# Altium footprint library iot_hdmi_mux.PcbLib: 22 footprints (part 2 of 2)
Each footprint in its own frame and in the unit in brackets; x right, y up, seen from the top. Pads: shape width x height; smd on the part's side, far side on the other; paste and mask are expansions set on the pad; w line width, h text height; cw(c..) or ccw(c..) is an arc to the next point about the centre after c.
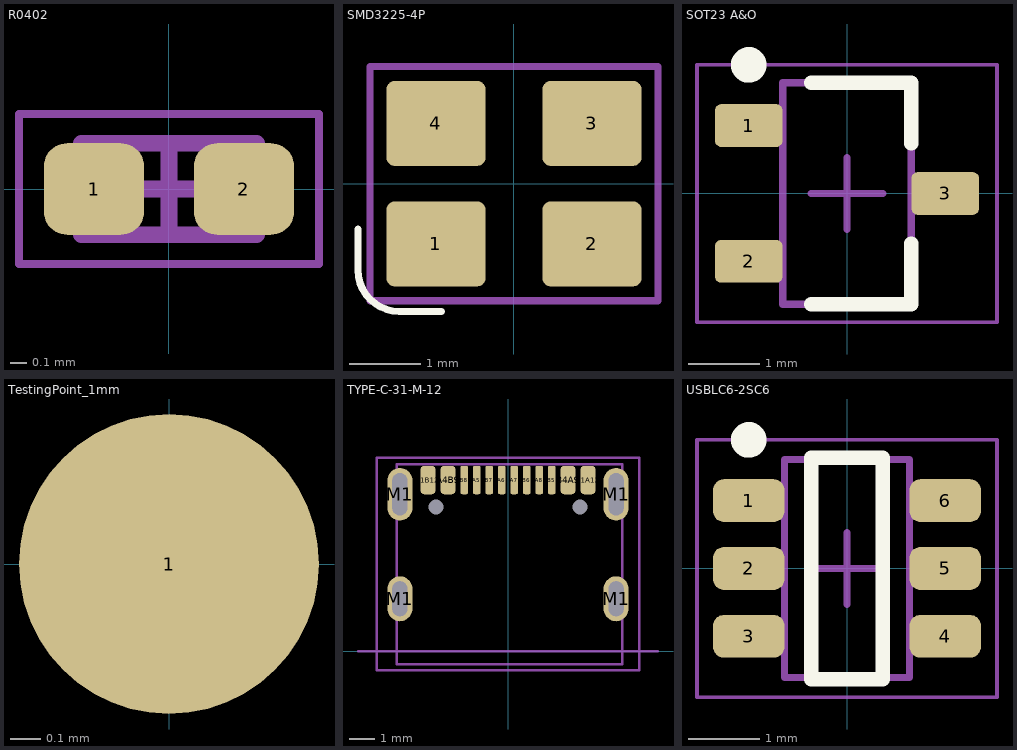
[diagram p1: the footprints below, top view; thin cyan lines are the x and y axes]

## R0402 [mm] "Chip Resistor, 2-Leads, Body 1.00x0.50mm, IPC Medium Density"
height 0.25
pads (2):
  rrect50% 0.6x0.55 smd mask+0.05: 1(-0.45,0) 2(0.45,0)
Mechanical 13:
  lines w0.1: -0.525,-0.275 0.525,-0.275 0.525,0.275 -0.525,0.275 -0.525,-0.275
Mechanical 15:
  lines w0.05: -0.9,-0.45 0.9,-0.45 0.9,0.45 -0.9,0.45 -0.9,-0.45
  lines w0.1: -0.275,0 0.275,0 ; 0,-0.275 0,0.275
3D body "RESC1005X02N.step": height 0.25, standoff 0, extent -0.525,-0.275 0.525,0.275

## SMD3225-4P [mm] "Crystal footprint"
pads (4):
  rrect20% 1.4x1.2 smd: 1(-1.1,-0.85) 2(1.1,-0.85) 3(1.1,0.85) 4(-1.1,0.85)
Top Overlay:
  lines w0.1: -2.2,-0.639 -2.2,-1.22 ccw(c-1.62,-1.22) -1.62,-1.8 -1.605,-1.8 ; -1.605,-1.8 -1.024,-1.8 -1.605,-1.8
Mechanical 15:
  lines w0.1: -2.032,-1.651 -2.032,1.651 2.032,1.651 2.032,-1.651 -2.032,-1.651
3D body "NX3225SA.step": height 0.55, standoff 0, extent -1.6,-1.25 1.6,1.25

## SOT23 A&O [mm] "SOT23, 3-Leads, Body 2.95x2.80mm, Pitch 0.95mm, IPC Medium Density"
height 1.25
pads (3):
  rrect30% 0.95x0.6 smd: 1(-1.375,0.95) 2(-1.375,-0.95) 3(1.375,0)
Top Overlay:
  circle w0.25: c-1.375,1.8 r0.125
  lines w0.2: -0.5,-1.55 0.9,-1.55 0.9,-0.7 ; -0.5,1.55 0.9,1.55 0.9,0.7
Mechanical 13:
  lines w0.1: -0.9,-1.55 -0.9,1.55 0.9,1.55 0.9,-1.55 -0.9,-1.55
Mechanical 15:
  lines w0.05: -2.1,-1.8 -2.1,1.8 2.1,1.8 2.1,-1.8 -2.1,-1.8
  lines w0.1: -0.5,0 0.5,0 ; 0,-0.5 0,0.5
3D body "SOT23 A&O.step": height 1.25, standoff 0, extent -1.5,-1.55 1.5,1.55

## TestingPoint_1mm [mm]
pads (1):
  round 1 smd paste-1: 1(0,0)

## TYPE-C-31-M-12 [mm] "5A 1 16P Female Type-C SMD  USB Connectors ROHS"
pads (18):
  rrect50% 0.6x1.14 smd: A1B12(-3.2,6.86) A4B9(-2.4,6.86) B1A12(3.2,6.86) B4A9(2.4,6.86)
  rrect50% 0.3x1.14 smd: A5(-1.25,6.86) A6(-0.25,6.86) A7(0.25,6.86) A8(1.25,6.86) B5(1.75,6.86) B6(0.75,6.86) B7(-0.75,6.86) B8(-1.75,6.86)
  rrect50% 0x0 hole 0.6: H(-2.89,5.79) H(2.89,5.79)
  oval 1x1.8 hole 0.6 slot 1.4 at 90 deg: M1(-4.325,2.11) M1(4.325,2.11)
  oval 1x2.1 hole 0.6 slot 1.7 at 90 deg: M1(-4.325,6.29) M1(4.325,6.29)
Mechanical 10:
  lines w0.1: -5.25,-0.75 -5.25,7.75 5.25,7.75 5.25,-0.75 0.52,-0.75 -5.25,-0.75
Mechanical 14:
  lines w0.1: -6,0 6,0 ; -4.445,-0.506 -4.445,7.495 -3.683,7.495 4.572,7.495 4.572,-0.506 -4.445,-0.506
  text "PCB edge" at 5.434,0.267 h0.5
3D body "HRO  TYPE-C-31-M-12.step": height 3.21, standoff -1, extent -4.45,-0.49 4.49,7.41

## USBLC6-2SC6 [mm]
height 1.45
pads (6):
  rrect50% 1x0.6 smd: 1(-1.375,0.95) 2(-1.375,0) 3(-1.375,-0.95) 4(1.375,-0.95) 5(1.375,0) 6(1.375,0.95)
Top Overlay:
  circle w0.25: c-1.375,1.8 r0.125
  lines w0.2: -0.5,-1.55 -0.5,1.55 0.5,1.55 0.5,-1.55 -0.5,-1.55
Mechanical 13:
  lines w0.1: -0.875,-1.525 0.875,-1.525 0.875,1.525 -0.875,1.525 -0.875,-1.525
Mechanical 15:
  lines w0.05: -2.1,-1.8 2.1,-1.8 2.1,1.8 -2.1,1.8 -2.1,-1.8
  lines w0.1: -0.5,0 0.5,0 ; 0,-0.5 0,0.5
3D body "SOT23127P600-8N.step": height 1.45, standoff 0, extent -1.6,-1.525 1.6,1.525